# Altium schematic symbol library kmilo17pet-LT_PMIC_LT.SchLib: 2252 symbols (part 115 of 124)
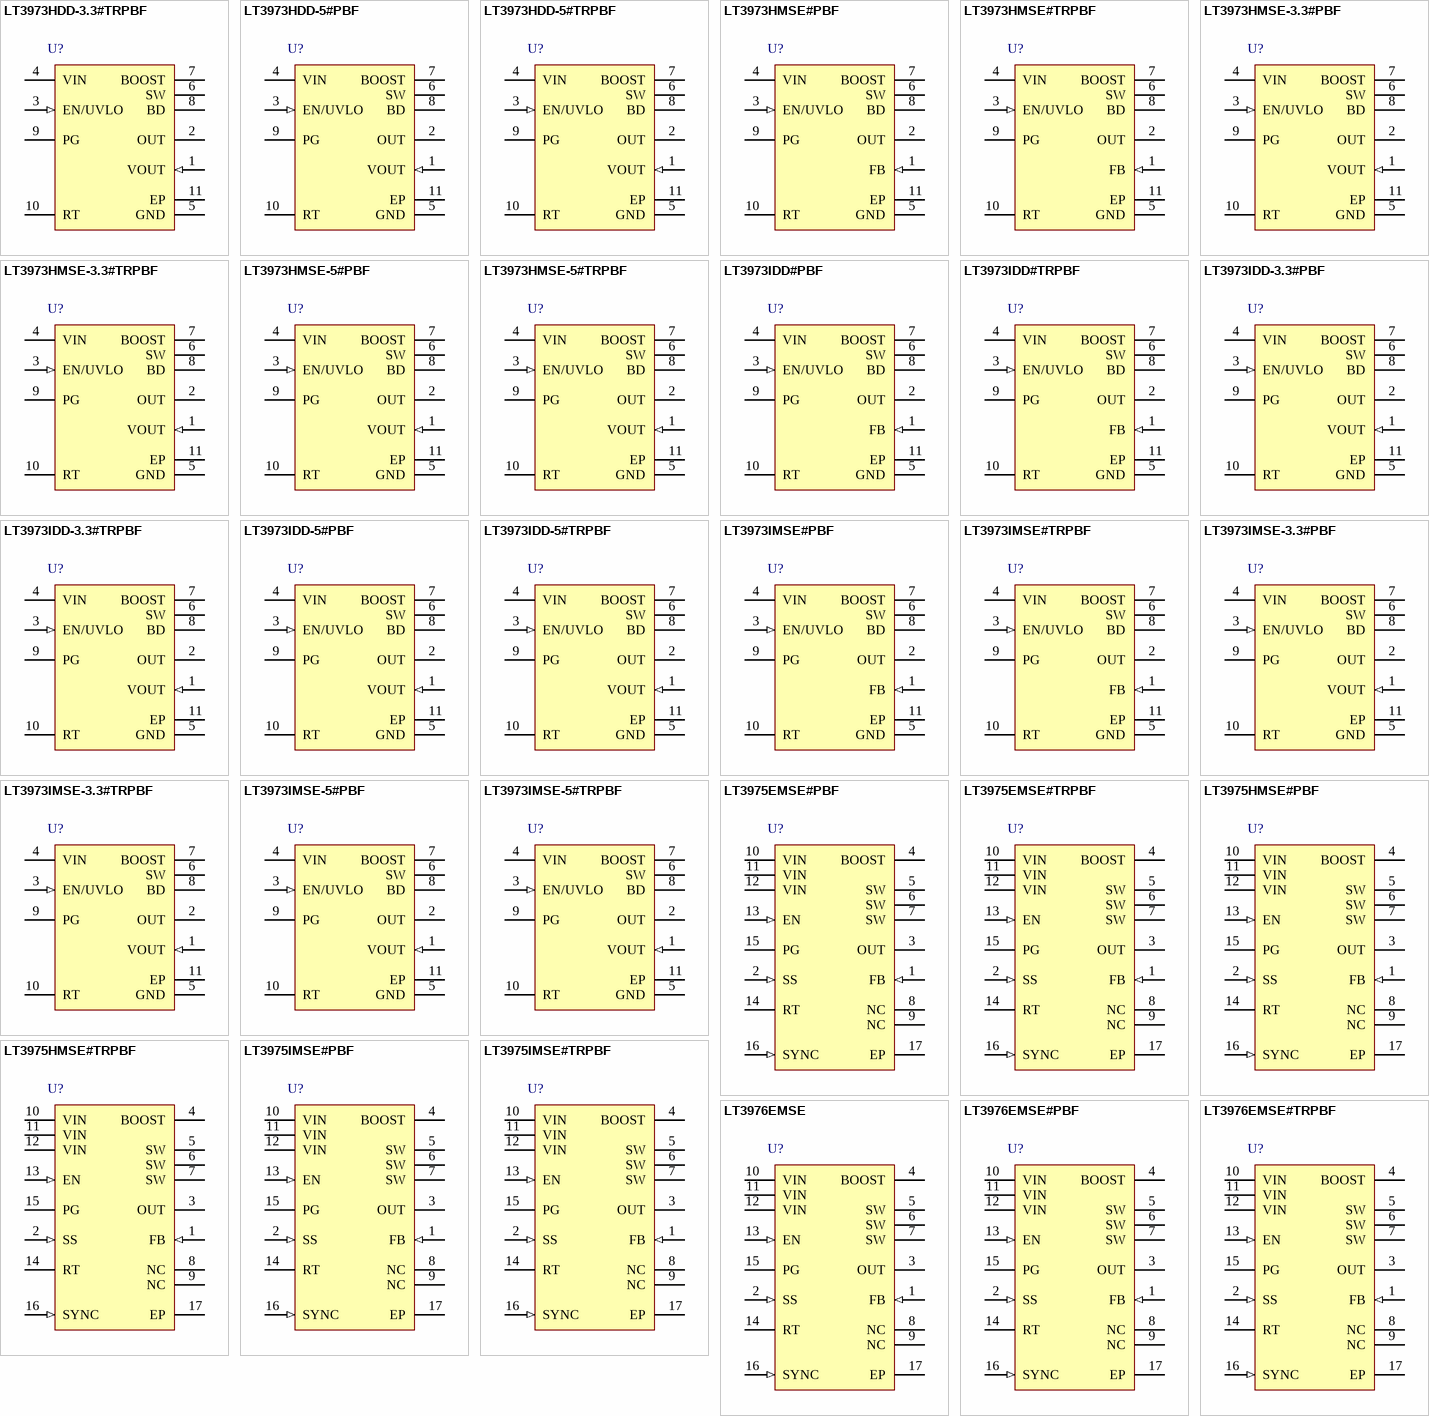
[diagram p185: symbols LT3973HDD-3.3#TRPBF to LT3976EMSE#TRPBF]

## LT3975IMSE#TRPBF
designator U?
2.5 A, 2 MHz Step-Down Switching Regulator with 2.7 uA Quiescent Current, 16-pin SOP (MSE-16-EDP), -40 to 125 degC, Pb-Free, Tape and Reel; Manufacturer: Linear Technology; PartNumber: LT3975IMSE#TRPBF; Number of Outputs: 1; PackageReference: MSE-16; PackageDescription: 16-Pin Plastic MSOP, Exposed Die Pad, Body 4.039 x 3 mm, Pitch 0.5 mm; Supplier 1: Digi-Key; Supplier Part Number 1: LT3975IMSE#TRPBF-ND; RoHS: TRUE
footprint LT-MSE-16-EDP_N (SOP, 16-Leads, Body 4.1x3.1mm, Pitch 0.5mm, Thermal Pad 2.95x1.76mm, IPC Medium Density)
footprint LT-MSE-16-EDP_L (SOP, 16-Leads, Body 4.1x3.1mm, Pitch 0.5mm, Thermal Pad 2.95x1.76mm, IPC High Density)
footprint LT-MSE-16-EDP_M (SOP, 16-Leads, Body 4.1x3.1mm, Pitch 0.5mm, Thermal Pad 2.95x1.76mm, IPC Low Density)
pins: 1 FB (in) "The LT3976 regulates the FB pin to 1.197V. Connect the feedback resistor divider tap to this pin. Also, connect a phase lead capacitor between FB and the output. Typically, this capacitor is 10pF.", 2 SS (in) "A capacitor is tied between SS and ground to slowly ramp up the peak current limit of the LT3976 on start-up. There is an internal 1.8uA pull-up on this pin. The soft -start capacitor is actively discharged when the EN pin (See Datasheet)", 3 OUT (power) "This pin is an input to the dropout comparator which maintains a minimum dropout of 500mV between VIN and OUT. The OUT pin connects to the anode of the internal boost diode. This pin also supplies the current to the (See Datasheet)", 4 BOOST "This pin is used to provide a drive voltage, higher than the input voltage, to the internal bipolar NPN power switch.", 5 SW (power) "The SW pin is the output of an internal power switch. Connect these pins to the inductor, catch diode, and boost capacitor. An R-C snubber to GND is needed to ensure robustness under all conditions. Typical values are 2ohm (See Datasheet)", 6 SW (power) "The SW pin is the output of an internal power switch. Connect these pins to the inductor, catch diode, and boost capacitor. An R-C snubber to GND is needed to ensure robustness under all conditions. Typical values are 2ohm (See Datasheet)", 7 SW (power) "The SW pin is the output of an internal power switch. Connect these pins to the inductor, catch diode, and boost capacitor. An R-C snubber to GND is needed to ensure robustness under all conditions. Typical values are 2ohm (See Datasheet)", 8 NC "No Connects. These pins are not connected to internal circuitry.", 9 NC "No Connects. These pins are not connected to internal circuitry.", 10 VIN (power) "The VIN pin supplies current to the LT3976’s internal circuitry and to the internal power switch. These pins must be locally bypassed.", 11 VIN (power) "The VIN pin supplies current to the LT3976’s internal circuitry and to the internal power switch. These pins must be locally bypassed.", 12 VIN (power) "The VIN pin supplies current to the LT3976’s internal circuitry and to the internal power switch. These pins must be locally bypassed.", 13 EN (in) "The part is in shutdown when this pin is low and active when this pin is high. The hysteretic threshold voltage is 1.08V going up and 1.02V going down. The EN threshold is only accurate when VIN is above 4.3V. If VIN is (See Datasheet)", 14 RT "A resistor is tied between RT and ground to set the switching frequency.", 15 PG (hiz) "The PG pin is the open-drain output of an internal comparator. PGOOD remains low until the FB pin is within 8.4% of the final regulation voltage. PGOOD is valid when VIN is above 2V.", 16 SYNC (in) "This is the external clock synchronization input. Ground this pin for low ripple Burst Mode operation at low output loads. Tie to a clock source for synchronization, which will include pulse skipping at low output loads. (See Datasheet)", 17 EP (power) "Ground. The exposed pad must be soldered to the PCB."

## LT3976EMSE
designator U?
5 A, 2 MHz Step-Down Switching Regulator with 3.3 uA Quiescent Current, 16-pin SOP (MSE-16-EDP), -40 to 125 degC; Manufacturer: Linear Technology; PartNumber: LT3976EMSE; Number of Outputs: 1; PackageReference: MSE-16; PackageDescription: 16-Pin Plastic MSOP, Exposed Die Pad, Body 4.039 x 3 mm, Pitch 0.5 mm; RoHS: FALSE
footprint LT-MSE-16-EDP_N (SOP, 16-Leads, Body 4.1x3.1mm, Pitch 0.5mm, Thermal Pad 2.95x1.76mm, IPC Medium Density)
footprint LT-MSE-16-EDP_L (SOP, 16-Leads, Body 4.1x3.1mm, Pitch 0.5mm, Thermal Pad 2.95x1.76mm, IPC High Density)
footprint LT-MSE-16-EDP_M (SOP, 16-Leads, Body 4.1x3.1mm, Pitch 0.5mm, Thermal Pad 2.95x1.76mm, IPC Low Density)
pins: 1 FB (in) "The LT3976 regulates the FB pin to 1.197V. Connect the feedback resistor divider tap to this pin. Also, connect a phase lead capacitor between FB and the output. Typically, this capacitor is 10pF.", 2 SS (in) "A capacitor is tied between SS and ground to slowly ramp up the peak current limit of the LT3976 on start-up. There is an internal 1.8uA pull-up on this pin. The soft -start capacitor is actively discharged when the EN pin (See Datasheet)", 3 OUT (power) "This pin is an input to the dropout comparator which maintains a minimum dropout of 500mV between VIN and OUT. The OUT pin connects to the anode of the internal boost diode. This pin also supplies the current to the (See Datasheet)", 4 BOOST "This pin is used to provide a drive voltage, higher than the input voltage, to the internal bipolar NPN power switch.", 5 SW (power) "The SW pin is the output of an internal power switch. Connect these pins to the inductor, catch diode, and boost capacitor. An R-C snubber to GND is needed to ensure robustness under all conditions. Typical values are 2ohm (See Datasheet)", 6 SW (power) "The SW pin is the output of an internal power switch. Connect these pins to the inductor, catch diode, and boost capacitor. An R-C snubber to GND is needed to ensure robustness under all conditions. Typical values are 2ohm (See Datasheet)", 7 SW (power) "The SW pin is the output of an internal power switch. Connect these pins to the inductor, catch diode, and boost capacitor. An R-C snubber to GND is needed to ensure robustness under all conditions. Typical values are 2ohm (See Datasheet)", 8 NC "No Connects. These pins are not connected to internal circuitry.", 9 NC "No Connects. These pins are not connected to internal circuitry.", 10 VIN (power) "The VIN pin supplies current to the LT3976’s internal circuitry and to the internal power switch. These pins must be locally bypassed.", 11 VIN (power) "The VIN pin supplies current to the LT3976’s internal circuitry and to the internal power switch. These pins must be locally bypassed.", 12 VIN (power) "The VIN pin supplies current to the LT3976’s internal circuitry and to the internal power switch. These pins must be locally bypassed.", 13 EN (in) "The part is in shutdown when this pin is low and active when this pin is high. The hysteretic threshold voltage is 1.08V going up and 1.02V going down. The EN threshold is only accurate when VIN is above 4.3V. If VIN is (See Datasheet)", 14 RT "A resistor is tied between RT and ground to set the switching frequency.", 15 PG (hiz) "The PG pin is the open-drain output of an internal comparator. PGOOD remains low until the FB pin is within 8.4% of the final regulation voltage. PGOOD is valid when VIN is above 2V.", 16 SYNC (in) "This is the external clock synchronization input. Ground this pin for low ripple Burst Mode operation at low output loads. Tie to a clock source for synchronization, which will include pulse skipping at low output loads. (See Datasheet)", 17 EP (power) "Ground. The exposed pad must be soldered to the PCB."

## LT3976EMSE#PBF
designator U?
5 A, 2 MHz Step-Down Switching Regulator with 3.3 uA Quiescent Current, 16-pin SOP (MSE-16-EDP), -40 to 125 degC, Pb-Free; Manufacturer: Linear Technology; PartNumber: LT3976EMSE#PBF; Number of Outputs: 1; PackageReference: MSE-16; PackageDescription: 16-Pin Plastic MSOP, Exposed Die Pad, Body 4.039 x 3 mm, Pitch 0.5 mm; Supplier 1: Digi-Key; Supplier Part Number 1: LT3976EMSE#PBF-ND; RoHS: TRUE
footprint LT-MSE-16-EDP_N (SOP, 16-Leads, Body 4.1x3.1mm, Pitch 0.5mm, Thermal Pad 2.95x1.76mm, IPC Medium Density)
footprint LT-MSE-16-EDP_L (SOP, 16-Leads, Body 4.1x3.1mm, Pitch 0.5mm, Thermal Pad 2.95x1.76mm, IPC High Density)
footprint LT-MSE-16-EDP_M (SOP, 16-Leads, Body 4.1x3.1mm, Pitch 0.5mm, Thermal Pad 2.95x1.76mm, IPC Low Density)
pins: 1 FB (in) "The LT3976 regulates the FB pin to 1.197V. Connect the feedback resistor divider tap to this pin. Also, connect a phase lead capacitor between FB and the output. Typically, this capacitor is 10pF.", 2 SS (in) "A capacitor is tied between SS and ground to slowly ramp up the peak current limit of the LT3976 on start-up. There is an internal 1.8uA pull-up on this pin. The soft -start capacitor is actively discharged when the EN pin (See Datasheet)", 3 OUT (power) "This pin is an input to the dropout comparator which maintains a minimum dropout of 500mV between VIN and OUT. The OUT pin connects to the anode of the internal boost diode. This pin also supplies the current to the (See Datasheet)", 4 BOOST "This pin is used to provide a drive voltage, higher than the input voltage, to the internal bipolar NPN power switch.", 5 SW (power) "The SW pin is the output of an internal power switch. Connect these pins to the inductor, catch diode, and boost capacitor. An R-C snubber to GND is needed to ensure robustness under all conditions. Typical values are 2ohm (See Datasheet)", 6 SW (power) "The SW pin is the output of an internal power switch. Connect these pins to the inductor, catch diode, and boost capacitor. An R-C snubber to GND is needed to ensure robustness under all conditions. Typical values are 2ohm (See Datasheet)", 7 SW (power) "The SW pin is the output of an internal power switch. Connect these pins to the inductor, catch diode, and boost capacitor. An R-C snubber to GND is needed to ensure robustness under all conditions. Typical values are 2ohm (See Datasheet)", 8 NC "No Connects. These pins are not connected to internal circuitry.", 9 NC "No Connects. These pins are not connected to internal circuitry.", 10 VIN (power) "The VIN pin supplies current to the LT3976’s internal circuitry and to the internal power switch. These pins must be locally bypassed.", 11 VIN (power) "The VIN pin supplies current to the LT3976’s internal circuitry and to the internal power switch. These pins must be locally bypassed.", 12 VIN (power) "The VIN pin supplies current to the LT3976’s internal circuitry and to the internal power switch. These pins must be locally bypassed.", 13 EN (in) "The part is in shutdown when this pin is low and active when this pin is high. The hysteretic threshold voltage is 1.08V going up and 1.02V going down. The EN threshold is only accurate when VIN is above 4.3V. If VIN is (See Datasheet)", 14 RT "A resistor is tied between RT and ground to set the switching frequency.", 15 PG (hiz) "The PG pin is the open-drain output of an internal comparator. PGOOD remains low until the FB pin is within 8.4% of the final regulation voltage. PGOOD is valid when VIN is above 2V.", 16 SYNC (in) "This is the external clock synchronization input. Ground this pin for low ripple Burst Mode operation at low output loads. Tie to a clock source for synchronization, which will include pulse skipping at low output loads. (See Datasheet)", 17 EP (power) "Ground. The exposed pad must be soldered to the PCB."

## LT3976EMSE#TRPBF
designator U?
5 A, 2 MHz Step-Down Switching Regulator with 3.3 uA Quiescent Current, 16-pin SOP (MSE-16-EDP), -40 to 125 degC, Pb-Free, Tape and Reel; Manufacturer: Linear Technology; PartNumber: LT3976EMSE#TRPBF; Number of Outputs: 1; PackageReference: MSE-16; PackageDescription: 16-Pin Plastic MSOP, Exposed Die Pad, Body 4.039 x 3 mm, Pitch 0.5 mm; Supplier 1: Digi-Key; Supplier Part Number 1: LT3976EMSE#TRPBF-ND; RoHS: TRUE
footprint LT-MSE-16-EDP_N (SOP, 16-Leads, Body 4.1x3.1mm, Pitch 0.5mm, Thermal Pad 2.95x1.76mm, IPC Medium Density)
footprint LT-MSE-16-EDP_L (SOP, 16-Leads, Body 4.1x3.1mm, Pitch 0.5mm, Thermal Pad 2.95x1.76mm, IPC High Density)
footprint LT-MSE-16-EDP_M (SOP, 16-Leads, Body 4.1x3.1mm, Pitch 0.5mm, Thermal Pad 2.95x1.76mm, IPC Low Density)
pins: 1 FB (in) "The LT3976 regulates the FB pin to 1.197V. Connect the feedback resistor divider tap to this pin. Also, connect a phase lead capacitor between FB and the output. Typically, this capacitor is 10pF.", 2 SS (in) "A capacitor is tied between SS and ground to slowly ramp up the peak current limit of the LT3976 on start-up. There is an internal 1.8uA pull-up on this pin. The soft -start capacitor is actively discharged when the EN pin (See Datasheet)", 3 OUT (power) "This pin is an input to the dropout comparator which maintains a minimum dropout of 500mV between VIN and OUT. The OUT pin connects to the anode of the internal boost diode. This pin also supplies the current to the (See Datasheet)", 4 BOOST "This pin is used to provide a drive voltage, higher than the input voltage, to the internal bipolar NPN power switch.", 5 SW (power) "The SW pin is the output of an internal power switch. Connect these pins to the inductor, catch diode, and boost capacitor. An R-C snubber to GND is needed to ensure robustness under all conditions. Typical values are 2ohm (See Datasheet)", 6 SW (power) "The SW pin is the output of an internal power switch. Connect these pins to the inductor, catch diode, and boost capacitor. An R-C snubber to GND is needed to ensure robustness under all conditions. Typical values are 2ohm (See Datasheet)", 7 SW (power) "The SW pin is the output of an internal power switch. Connect these pins to the inductor, catch diode, and boost capacitor. An R-C snubber to GND is needed to ensure robustness under all conditions. Typical values are 2ohm (See Datasheet)", 8 NC "No Connects. These pins are not connected to internal circuitry.", 9 NC "No Connects. These pins are not connected to internal circuitry.", 10 VIN (power) "The VIN pin supplies current to the LT3976’s internal circuitry and to the internal power switch. These pins must be locally bypassed.", 11 VIN (power) "The VIN pin supplies current to the LT3976’s internal circuitry and to the internal power switch. These pins must be locally bypassed.", 12 VIN (power) "The VIN pin supplies current to the LT3976’s internal circuitry and to the internal power switch. These pins must be locally bypassed.", 13 EN (in) "The part is in shutdown when this pin is low and active when this pin is high. The hysteretic threshold voltage is 1.08V going up and 1.02V going down. The EN threshold is only accurate when VIN is above 4.3V. If VIN is (See Datasheet)", 14 RT "A resistor is tied between RT and ground to set the switching frequency.", 15 PG (hiz) "The PG pin is the open-drain output of an internal comparator. PGOOD remains low until the FB pin is within 8.4% of the final regulation voltage. PGOOD is valid when VIN is above 2V.", 16 SYNC (in) "This is the external clock synchronization input. Ground this pin for low ripple Burst Mode operation at low output loads. Tie to a clock source for synchronization, which will include pulse skipping at low output loads. (See Datasheet)", 17 EP (power) "Ground. The exposed pad must be soldered to the PCB."

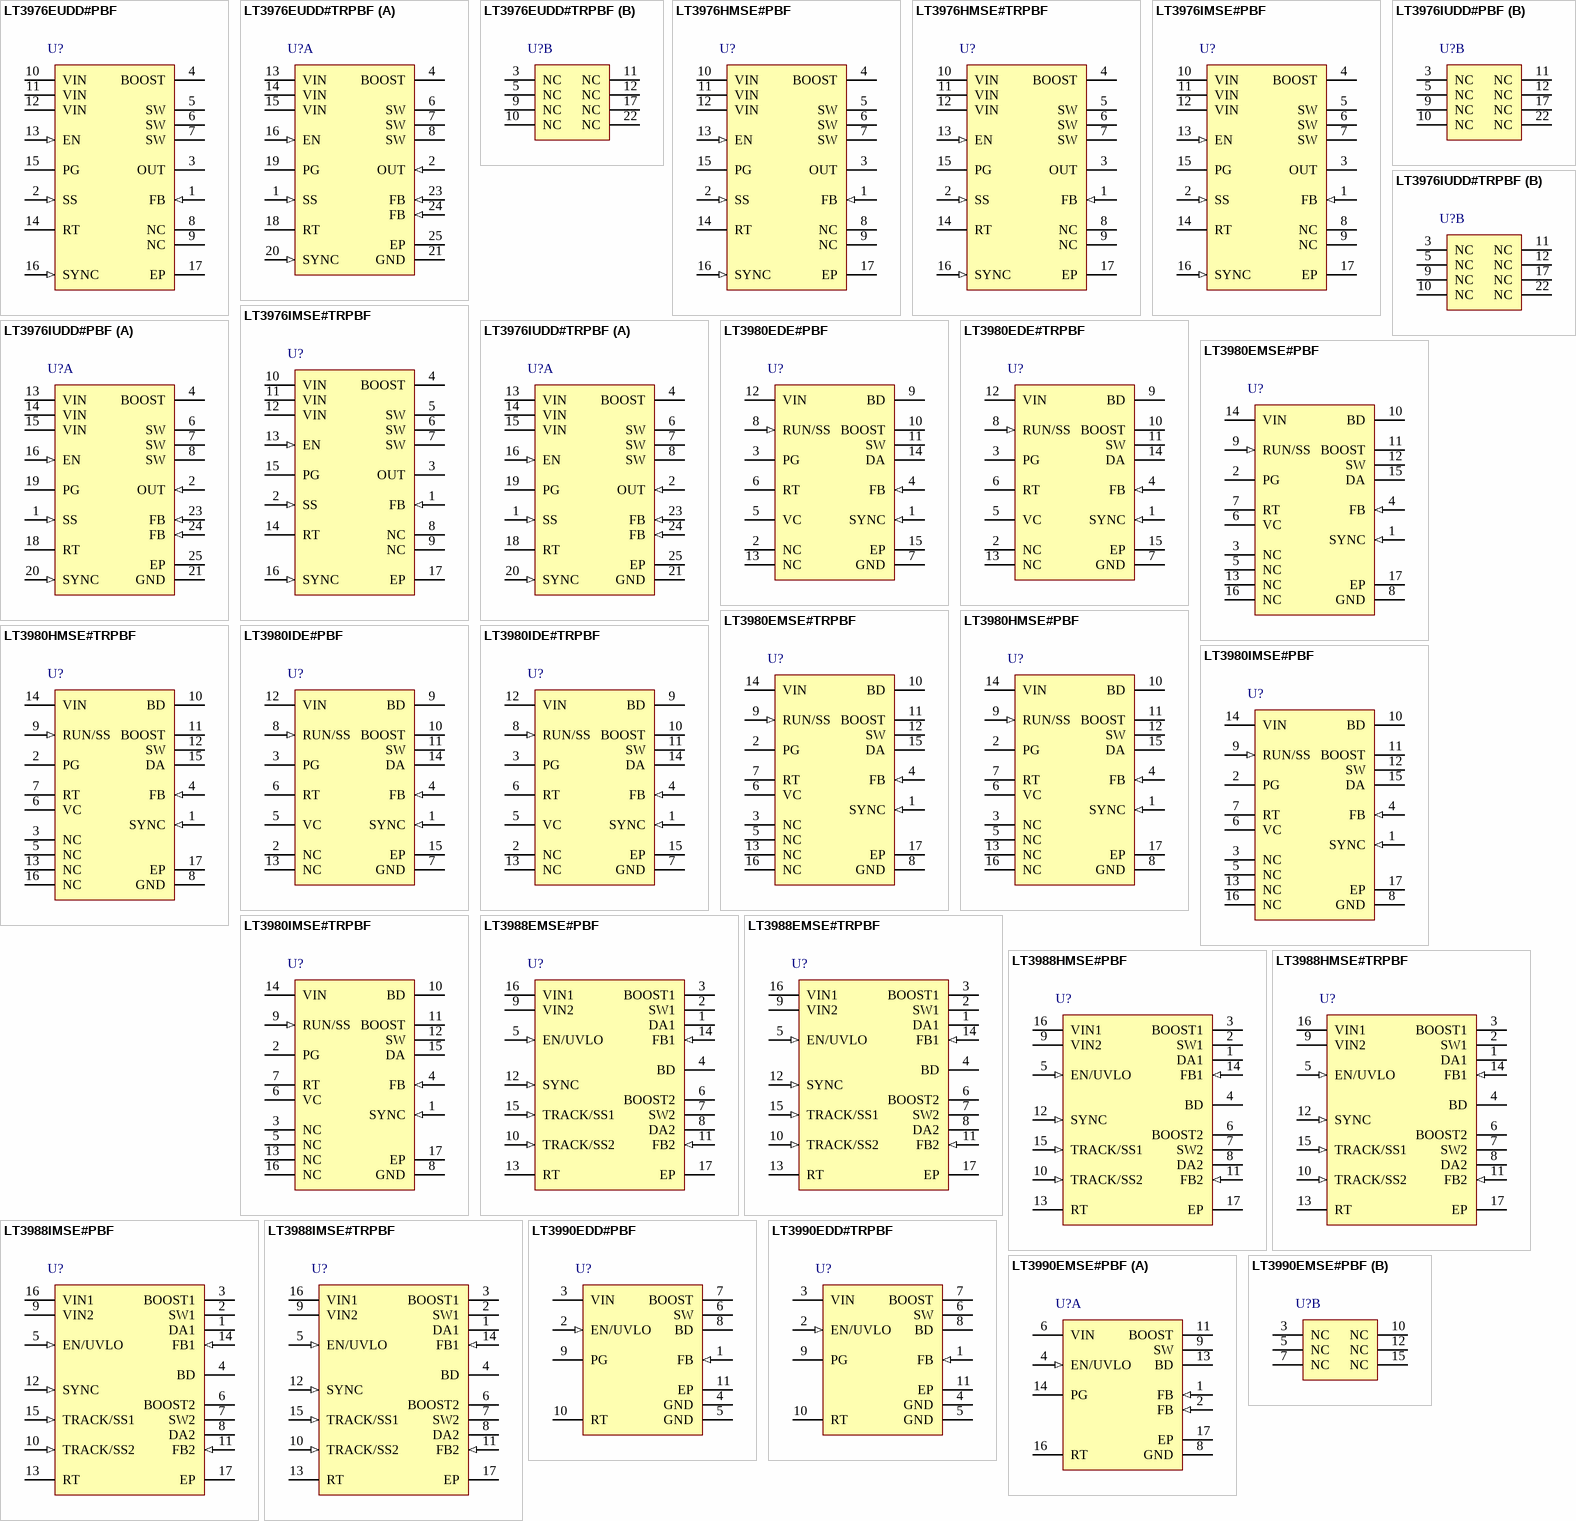
[diagram p66: symbols LT3976EUDD#PBF to LT3990EMSE#PBF]

## LT3976EUDD#PBF
designator U?
5 A, 2 MHz Step-Down Switching Regulator with 3.3 uA Quiescent Current, 16-pin SOP (MSE-16-EDP), -40 to 125 degC, Pb-Free; Manufacturer: Linear Technology; PartNumber: LT3976EUDD#PBF; Number of Outputs: 1; PackageReference: MSE-16; PackageDescription: 16-Pin Plastic MSOP, Exposed Die Pad, Body 4.039 x 3 mm, Pitch 0.5 mm; Supplier 1: Digi-Key; Supplier Part Number 1: LT3976EUDD#PBF-ND; RoHS: TRUE
footprint LT-MSE-16-EDP_N (SOP, 16-Leads, Body 4.1x3.1mm, Pitch 0.5mm, Thermal Pad 2.95x1.76mm, IPC Medium Density)
footprint LT-MSE-16-EDP_L (SOP, 16-Leads, Body 4.1x3.1mm, Pitch 0.5mm, Thermal Pad 2.95x1.76mm, IPC High Density)
footprint LT-MSE-16-EDP_M (SOP, 16-Leads, Body 4.1x3.1mm, Pitch 0.5mm, Thermal Pad 2.95x1.76mm, IPC Low Density)
pins: 1 FB (in) "The LT3976 regulates the FB pin to 1.197V. Connect the feedback resistor divider tap to this pin. Also, connect a phase lead capacitor between FB and the output. Typically, this capacitor is 10pF.", 2 SS (in) "A capacitor is tied between SS and ground to slowly ramp up the peak current limit of the LT3976 on start-up. There is an internal 1.8uA pull-up on this pin. The soft -start capacitor is actively discharged when the EN pin (See Datasheet)", 3 OUT (power) "This pin is an input to the dropout comparator which maintains a minimum dropout of 500mV between VIN and OUT. The OUT pin connects to the anode of the internal boost diode. This pin also supplies the current to the (See Datasheet)", 4 BOOST "This pin is used to provide a drive voltage, higher than the input voltage, to the internal bipolar NPN power switch.", 5 SW (power) "The SW pin is the output of an internal power switch. Connect these pins to the inductor, catch diode, and boost capacitor. An R-C snubber to GND is needed to ensure robustness under all conditions. Typical values are 2ohm (See Datasheet)", 6 SW (power) "The SW pin is the output of an internal power switch. Connect these pins to the inductor, catch diode, and boost capacitor. An R-C snubber to GND is needed to ensure robustness under all conditions. Typical values are 2ohm (See Datasheet)", 7 SW (power) "The SW pin is the output of an internal power switch. Connect these pins to the inductor, catch diode, and boost capacitor. An R-C snubber to GND is needed to ensure robustness under all conditions. Typical values are 2ohm (See Datasheet)", 8 NC "No Connects. These pins are not connected to internal circuitry.", 9 NC "No Connects. These pins are not connected to internal circuitry.", 10 VIN (power) "The VIN pin supplies current to the LT3976’s internal circuitry and to the internal power switch. These pins must be locally bypassed.", 11 VIN (power) "The VIN pin supplies current to the LT3976’s internal circuitry and to the internal power switch. These pins must be locally bypassed.", 12 VIN (power) "The VIN pin supplies current to the LT3976’s internal circuitry and to the internal power switch. These pins must be locally bypassed.", 13 EN (in) "The part is in shutdown when this pin is low and active when this pin is high. The hysteretic threshold voltage is 1.08V going up and 1.02V going down. The EN threshold is only accurate when VIN is above 4.3V. If VIN is (See Datasheet)", 14 RT "A resistor is tied between RT and ground to set the switching frequency.", 15 PG (hiz) "The PG pin is the open-drain output of an internal comparator. PGOOD remains low until the FB pin is within 8.4% of the final regulation voltage. PGOOD is valid when VIN is above 2V.", 16 SYNC (in) "This is the external clock synchronization input. Ground this pin for low ripple Burst Mode operation at low output loads. Tie to a clock source for synchronization, which will include pulse skipping at low output loads. (See Datasheet)", 17 EP (power) "Ground. The exposed pad must be soldered to the PCB."

## LT3976EUDD#TRPBF
designator U?
5 A, 2 MHz Step-Down Switching Regulator with 3.3 uA Quiescent Current, 24-pin QFN (UDD-24), -40 to 125 degC, Pb-Free, Tape and Reel; Manufacturer: Linear Technology; PartNumber: LT3976EUDD#TRPBF; Number of Outputs: 1; PackageReference: UDD-24; PackageDescription: 24-Pin Plastic QFN, Body 5 x 3 mm, Pitch 0.5 mm; Supplier 1: Digi-Key; Supplier Part Number 1: LT3976EUDD#TRPBF-ND; RoHS: TRUE
footprint LT-UDD-24_N (QFN, 24-Leads, Body 5.1x3.1mm, Pitch 0.5mm, Thermal Pad 3.65x1.65mm, IPC Medium Density)
footprint LT-UDD-24_L (QFN, 24-Leads, Body 5.1x3.1mm, Pitch 0.5mm, Thermal Pad 3.65x1.65mm, IPC High Density)
footprint LT-UDD-24_M (QFN, 24-Leads, Body 5.1x3.1mm, Pitch 0.5mm, Thermal Pad 3.65x1.65mm, IPC Low Density)
part A pins: 1 SS (in) "A capacitor is tied between SS and ground to slowly ramp up the peak current limit of the LT3976 on start-up. There is an internal 1.8uA pull-up on this pin. The soft-start capacitor is actively discharged when the EN pin (See Datasheet)", 2 OUT (in) "This pin is an input to the dropout comparator which maintains a minimum dropout of 500mV between VIN and OUT. The OUT pin connects to the anode of the internal boost diode. This pin also supplies the current to the (See Datasheet)", 4 BOOST "This pin is used to provide a drive voltage, higher than the input voltage, to the internal bipolar NPN power switch.", 6 SW (power) "The SW pin is the output of an internal power switch. Connect these pins to the inductor, catch diode, and boost capacitor. An R-C snubber to GND is needed to ensure robustness under all conditions. Typical values are 2ohm (See Datasheet)", 7 SW (power) "The SW pin is the output of an internal power switch. Connect these pins to the inductor, catch diode, and boost capacitor. An R-C snubber to GND is needed to ensure robustness under all conditions. Typical values are 2ohm (See Datasheet)", 8 SW (power) "The SW pin is the output of an internal power switch. Connect these pins to the inductor, catch diode, and boost capacitor. An R-C snubber to GND is needed to ensure robustness under all conditions. Typical values are 2ohm (See Datasheet)", 13 VIN (power) "The VIN pin supplies current to the LT3976’s internal circuitry and to the internal power switch. These pins must be locally bypassed.", 14 VIN (power) "The VIN pin supplies current to the LT3976’s internal circuitry and to the internal power switch. These pins must be locally bypassed.", 15 VIN (power) "The VIN pin supplies current to the LT3976’s internal circuitry and to the internal power switch. These pins must be locally bypassed.", 16 EN (in) "The part is in shutdown when this pin is low and active when this pin is high. The hysteretic threshold voltage is 1.08V going up and 1.02V going down. The EN threshold is only accurate when VIN is above 4.3V. If VIN is (See Datasheet)", 18 RT "A resistor is tied between RT and ground to set the switching frequency.", 19 PG (hiz) "The PG pin is the open-drain output of an internal comparator. PGOOD remains low until the FB pin is within 8.4% of the final regulation voltage. PGOOD is valid when VIN is above 2V.", 20 SYNC (in) "This is the external clock synchronization input. Ground this pin for low ripple Burst Mode operation at low output loads. Tie to a clock source for synchronization, which will include pulse skipping at low output loads. (See Datasheet)", 21 GND (power) "Ground. The exposed pad must be soldered to the PCB.", 23 FB (in) "The LT3976 regulates the FB pin to 1.197V. Connect the feedback resistor divider tap to this pin. Also, connect a phase lead capacitor between FB and the output. Typically, this capacitor is 10pF.", 24 FB (in) "The LT3976 regulates the FB pin to 1.197V. Connect the feedback resistor divider tap to this pin. Also, connect a phase lead capacitor between FB and the output. Typically, this capacitor is 10pF.", 25 EP (power) "Ground. The exposed pad must be soldered to the PCB."
part B pins: 3 NC "No Connects. These pins are not connected to internal circuitry.", 5 NC "No Connects. These pins are not connected to internal circuitry.", 9 NC "No Connects. These pins are not connected to internal circuitry.", 10 NC "No Connects. These pins are not connected to internal circuitry.", 11 NC "No Connects. These pins are not connected to internal circuitry.", 12 NC "No Connects. These pins are not connected to internal circuitry.", 17 NC "No Connects. These pins are not connected to internal circuitry.", 22 NC "No Connects. These pins are not connected to internal circuitry."

## LT3976HMSE#PBF
designator U?
5 A, 2 MHz Step-Down Switching Regulator with 3.3 uA Quiescent Current, 16-pin SOP (MSE-16-EDP), -40 to 150 degC, Pb-Free; Manufacturer: Linear Technology; PartNumber: LT3976HMSE#PBF; Number of Outputs: 1; PackageReference: MSE-16; PackageDescription: 16-Pin Plastic MSOP, Exposed Die Pad, Body 4.039 x 3 mm, Pitch 0.5 mm; Supplier 1: Digi-Key; Supplier Part Number 1: LT3976HMSE#PBF-ND; RoHS: TRUE
footprint LT-MSE-16-EDP_N (SOP, 16-Leads, Body 4.1x3.1mm, Pitch 0.5mm, Thermal Pad 2.95x1.76mm, IPC Medium Density)
footprint LT-MSE-16-EDP_L (SOP, 16-Leads, Body 4.1x3.1mm, Pitch 0.5mm, Thermal Pad 2.95x1.76mm, IPC High Density)
footprint LT-MSE-16-EDP_M (SOP, 16-Leads, Body 4.1x3.1mm, Pitch 0.5mm, Thermal Pad 2.95x1.76mm, IPC Low Density)
pins: 1 FB (in) "The LT3976 regulates the FB pin to 1.197V. Connect the feedback resistor divider tap to this pin. Also, connect a phase lead capacitor between FB and the output. Typically, this capacitor is 10pF.", 2 SS (in) "A capacitor is tied between SS and ground to slowly ramp up the peak current limit of the LT3976 on start-up. There is an internal 1.8uA pull-up on this pin. The soft -start capacitor is actively discharged when the EN pin (See Datasheet)", 3 OUT (power) "This pin is an input to the dropout comparator which maintains a minimum dropout of 500mV between VIN and OUT. The OUT pin connects to the anode of the internal boost diode. This pin also supplies the current to the (See Datasheet)", 4 BOOST "This pin is used to provide a drive voltage, higher than the input voltage, to the internal bipolar NPN power switch.", 5 SW (power) "The SW pin is the output of an internal power switch. Connect these pins to the inductor, catch diode, and boost capacitor. An R-C snubber to GND is needed to ensure robustness under all conditions. Typical values are 2ohm (See Datasheet)", 6 SW (power) "The SW pin is the output of an internal power switch. Connect these pins to the inductor, catch diode, and boost capacitor. An R-C snubber to GND is needed to ensure robustness under all conditions. Typical values are 2ohm (See Datasheet)", 7 SW (power) "The SW pin is the output of an internal power switch. Connect these pins to the inductor, catch diode, and boost capacitor. An R-C snubber to GND is needed to ensure robustness under all conditions. Typical values are 2ohm (See Datasheet)", 8 NC "No Connects. These pins are not connected to internal circuitry.", 9 NC "No Connects. These pins are not connected to internal circuitry.", 10 VIN (power) "The VIN pin supplies current to the LT3976’s internal circuitry and to the internal power switch. These pins must be locally bypassed.", 11 VIN (power) "The VIN pin supplies current to the LT3976’s internal circuitry and to the internal power switch. These pins must be locally bypassed.", 12 VIN (power) "The VIN pin supplies current to the LT3976’s internal circuitry and to the internal power switch. These pins must be locally bypassed.", 13 EN (in) "The part is in shutdown when this pin is low and active when this pin is high. The hysteretic threshold voltage is 1.08V going up and 1.02V going down. The EN threshold is only accurate when VIN is above 4.3V. If VIN is (See Datasheet)", 14 RT "A resistor is tied between RT and ground to set the switching frequency.", 15 PG (hiz) "The PG pin is the open-drain output of an internal comparator. PGOOD remains low until the FB pin is within 8.4% of the final regulation voltage. PGOOD is valid when VIN is above 2V.", 16 SYNC (in) "This is the external clock synchronization input. Ground this pin for low ripple Burst Mode operation at low output loads. Tie to a clock source for synchronization, which will include pulse skipping at low output loads. (See Datasheet)", 17 EP (power) "Ground. The exposed pad must be soldered to the PCB."

## LT3976HMSE#TRPBF
designator U?
5 A, 2 MHz Step-Down Switching Regulator with 3.3 uA Quiescent Current, 16-pin SOP (MSE-16-EDP), -40 to 150 degC, Pb-Free, Tape and Reel; Manufacturer: Linear Technology; PartNumber: LT3976HMSE#TRPBF; Number of Outputs: 1; PackageReference: MSE-16; PackageDescription: 16-Pin Plastic MSOP, Exposed Die Pad, Body 4.039 x 3 mm, Pitch 0.5 mm; Supplier 1: Digi-Key; Supplier Part Number 1: LT3976HMSE#TRPBF-ND; RoHS: TRUE
footprint LT-MSE-16-EDP_N (SOP, 16-Leads, Body 4.1x3.1mm, Pitch 0.5mm, Thermal Pad 2.95x1.76mm, IPC Medium Density)
footprint LT-MSE-16-EDP_L (SOP, 16-Leads, Body 4.1x3.1mm, Pitch 0.5mm, Thermal Pad 2.95x1.76mm, IPC High Density)
footprint LT-MSE-16-EDP_M (SOP, 16-Leads, Body 4.1x3.1mm, Pitch 0.5mm, Thermal Pad 2.95x1.76mm, IPC Low Density)
pins: 1 FB (in) "The LT3976 regulates the FB pin to 1.197V. Connect the feedback resistor divider tap to this pin. Also, connect a phase lead capacitor between FB and the output. Typically, this capacitor is 10pF.", 2 SS (in) "A capacitor is tied between SS and ground to slowly ramp up the peak current limit of the LT3976 on start-up. There is an internal 1.8uA pull-up on this pin. The soft -start capacitor is actively discharged when the EN pin (See Datasheet)", 3 OUT (power) "This pin is an input to the dropout comparator which maintains a minimum dropout of 500mV between VIN and OUT. The OUT pin connects to the anode of the internal boost diode. This pin also supplies the current to the (See Datasheet)", 4 BOOST "This pin is used to provide a drive voltage, higher than the input voltage, to the internal bipolar NPN power switch.", 5 SW (power) "The SW pin is the output of an internal power switch. Connect these pins to the inductor, catch diode, and boost capacitor. An R-C snubber to GND is needed to ensure robustness under all conditions. Typical values are 2ohm (See Datasheet)", 6 SW (power) "The SW pin is the output of an internal power switch. Connect these pins to the inductor, catch diode, and boost capacitor. An R-C snubber to GND is needed to ensure robustness under all conditions. Typical values are 2ohm (See Datasheet)", 7 SW (power) "The SW pin is the output of an internal power switch. Connect these pins to the inductor, catch diode, and boost capacitor. An R-C snubber to GND is needed to ensure robustness under all conditions. Typical values are 2ohm (See Datasheet)", 8 NC "No Connects. These pins are not connected to internal circuitry.", 9 NC "No Connects. These pins are not connected to internal circuitry.", 10 VIN (power) "The VIN pin supplies current to the LT3976’s internal circuitry and to the internal power switch. These pins must be locally bypassed.", 11 VIN (power) "The VIN pin supplies current to the LT3976’s internal circuitry and to the internal power switch. These pins must be locally bypassed.", 12 VIN (power) "The VIN pin supplies current to the LT3976’s internal circuitry and to the internal power switch. These pins must be locally bypassed.", 13 EN (in) "The part is in shutdown when this pin is low and active when this pin is high. The hysteretic threshold voltage is 1.08V going up and 1.02V going down. The EN threshold is only accurate when VIN is above 4.3V. If VIN is (See Datasheet)", 14 RT "A resistor is tied between RT and ground to set the switching frequency.", 15 PG (hiz) "The PG pin is the open-drain output of an internal comparator. PGOOD remains low until the FB pin is within 8.4% of the final regulation voltage. PGOOD is valid when VIN is above 2V.", 16 SYNC (in) "This is the external clock synchronization input. Ground this pin for low ripple Burst Mode operation at low output loads. Tie to a clock source for synchronization, which will include pulse skipping at low output loads. (See Datasheet)", 17 EP (power) "Ground. The exposed pad must be soldered to the PCB."

## LT3976IMSE#PBF
designator U?
5 A, 2 MHz Step-Down Switching Regulator with 3.3 uA Quiescent Current, 16-pin SOP (MSE-16-EDP), -40 to 125 degC, Pb-Free; Manufacturer: Linear Technology; PartNumber: LT3976IMSE#PBF; Number of Outputs: 1; PackageReference: MSE-16; PackageDescription: 16-Pin Plastic MSOP, Exposed Die Pad, Body 4.039 x 3 mm, Pitch 0.5 mm; Supplier 1: Digi-Key; Supplier Part Number 1: LT3976IMSE#PBF-ND; RoHS: TRUE
footprint LT-MSE-16-EDP_N (SOP, 16-Leads, Body 4.1x3.1mm, Pitch 0.5mm, Thermal Pad 2.95x1.76mm, IPC Medium Density)
footprint LT-MSE-16-EDP_L (SOP, 16-Leads, Body 4.1x3.1mm, Pitch 0.5mm, Thermal Pad 2.95x1.76mm, IPC High Density)
footprint LT-MSE-16-EDP_M (SOP, 16-Leads, Body 4.1x3.1mm, Pitch 0.5mm, Thermal Pad 2.95x1.76mm, IPC Low Density)
pins: 1 FB (in) "The LT3976 regulates the FB pin to 1.197V. Connect the feedback resistor divider tap to this pin. Also, connect a phase lead capacitor between FB and the output. Typically, this capacitor is 10pF.", 2 SS (in) "A capacitor is tied between SS and ground to slowly ramp up the peak current limit of the LT3976 on start-up. There is an internal 1.8uA pull-up on this pin. The soft -start capacitor is actively discharged when the EN pin (See Datasheet)", 3 OUT (power) "This pin is an input to the dropout comparator which maintains a minimum dropout of 500mV between VIN and OUT. The OUT pin connects to the anode of the internal boost diode. This pin also supplies the current to the (See Datasheet)", 4 BOOST "This pin is used to provide a drive voltage, higher than the input voltage, to the internal bipolar NPN power switch.", 5 SW (power) "The SW pin is the output of an internal power switch. Connect these pins to the inductor, catch diode, and boost capacitor. An R-C snubber to GND is needed to ensure robustness under all conditions. Typical values are 2ohm (See Datasheet)", 6 SW (power) "The SW pin is the output of an internal power switch. Connect these pins to the inductor, catch diode, and boost capacitor. An R-C snubber to GND is needed to ensure robustness under all conditions. Typical values are 2ohm (See Datasheet)", 7 SW (power) "The SW pin is the output of an internal power switch. Connect these pins to the inductor, catch diode, and boost capacitor. An R-C snubber to GND is needed to ensure robustness under all conditions. Typical values are 2ohm (See Datasheet)", 8 NC "No Connects. These pins are not connected to internal circuitry.", 9 NC "No Connects. These pins are not connected to internal circuitry.", 10 VIN (power) "The VIN pin supplies current to the LT3976’s internal circuitry and to the internal power switch. These pins must be locally bypassed.", 11 VIN (power) "The VIN pin supplies current to the LT3976’s internal circuitry and to the internal power switch. These pins must be locally bypassed.", 12 VIN (power) "The VIN pin supplies current to the LT3976’s internal circuitry and to the internal power switch. These pins must be locally bypassed.", 13 EN (in) "The part is in shutdown when this pin is low and active when this pin is high. The hysteretic threshold voltage is 1.08V going up and 1.02V going down. The EN threshold is only accurate when VIN is above 4.3V. If VIN is (See Datasheet)", 14 RT "A resistor is tied between RT and ground to set the switching frequency.", 15 PG (hiz) "The PG pin is the open-drain output of an internal comparator. PGOOD remains low until the FB pin is within 8.4% of the final regulation voltage. PGOOD is valid when VIN is above 2V.", 16 SYNC (in) "This is the external clock synchronization input. Ground this pin for low ripple Burst Mode operation at low output loads. Tie to a clock source for synchronization, which will include pulse skipping at low output loads. (See Datasheet)", 17 EP (power) "Ground. The exposed pad must be soldered to the PCB."

## LT3976IMSE#TRPBF
designator U?
5 A, 2 MHz Step-Down Switching Regulator with 3.3 uA Quiescent Current, 16-pin SOP (MSE-16-EDP), -40 to 125 degC, Pb-Free, Tape and Reel; Manufacturer: Linear Technology; PartNumber: LT3976IMSE#TRPBF; Number of Outputs: 1; PackageReference: MSE-16; PackageDescription: 16-Pin Plastic MSOP, Exposed Die Pad, Body 4.039 x 3 mm, Pitch 0.5 mm; Supplier 1: Digi-Key; Supplier Part Number 1: LT3976IMSE#TRPBF-ND; RoHS: TRUE
footprint LT-MSE-16-EDP_N (SOP, 16-Leads, Body 4.1x3.1mm, Pitch 0.5mm, Thermal Pad 2.95x1.76mm, IPC Medium Density)
footprint LT-MSE-16-EDP_L (SOP, 16-Leads, Body 4.1x3.1mm, Pitch 0.5mm, Thermal Pad 2.95x1.76mm, IPC High Density)
footprint LT-MSE-16-EDP_M (SOP, 16-Leads, Body 4.1x3.1mm, Pitch 0.5mm, Thermal Pad 2.95x1.76mm, IPC Low Density)
pins: 1 FB (in) "The LT3976 regulates the FB pin to 1.197V. Connect the feedback resistor divider tap to this pin. Also, connect a phase lead capacitor between FB and the output. Typically, this capacitor is 10pF.", 2 SS (in) "A capacitor is tied between SS and ground to slowly ramp up the peak current limit of the LT3976 on start-up. There is an internal 1.8uA pull-up on this pin. The soft -start capacitor is actively discharged when the EN pin (See Datasheet)", 3 OUT (power) "This pin is an input to the dropout comparator which maintains a minimum dropout of 500mV between VIN and OUT. The OUT pin connects to the anode of the internal boost diode. This pin also supplies the current to the (See Datasheet)", 4 BOOST "This pin is used to provide a drive voltage, higher than the input voltage, to the internal bipolar NPN power switch.", 5 SW (power) "The SW pin is the output of an internal power switch. Connect these pins to the inductor, catch diode, and boost capacitor. An R-C snubber to GND is needed to ensure robustness under all conditions. Typical values are 2ohm (See Datasheet)", 6 SW (power) "The SW pin is the output of an internal power switch. Connect these pins to the inductor, catch diode, and boost capacitor. An R-C snubber to GND is needed to ensure robustness under all conditions. Typical values are 2ohm (See Datasheet)", 7 SW (power) "The SW pin is the output of an internal power switch. Connect these pins to the inductor, catch diode, and boost capacitor. An R-C snubber to GND is needed to ensure robustness under all conditions. Typical values are 2ohm (See Datasheet)", 8 NC "No Connects. These pins are not connected to internal circuitry.", 9 NC "No Connects. These pins are not connected to internal circuitry.", 10 VIN (power) "The VIN pin supplies current to the LT3976’s internal circuitry and to the internal power switch. These pins must be locally bypassed.", 11 VIN (power) "The VIN pin supplies current to the LT3976’s internal circuitry and to the internal power switch. These pins must be locally bypassed.", 12 VIN (power) "The VIN pin supplies current to the LT3976’s internal circuitry and to the internal power switch. These pins must be locally bypassed.", 13 EN (in) "The part is in shutdown when this pin is low and active when this pin is high. The hysteretic threshold voltage is 1.08V going up and 1.02V going down. The EN threshold is only accurate when VIN is above 4.3V. If VIN is (See Datasheet)", 14 RT "A resistor is tied between RT and ground to set the switching frequency.", 15 PG (hiz) "The PG pin is the open-drain output of an internal comparator. PGOOD remains low until the FB pin is within 8.4% of the final regulation voltage. PGOOD is valid when VIN is above 2V.", 16 SYNC (in) "This is the external clock synchronization input. Ground this pin for low ripple Burst Mode operation at low output loads. Tie to a clock source for synchronization, which will include pulse skipping at low output loads. (See Datasheet)", 17 EP (power) "Ground. The exposed pad must be soldered to the PCB."

## LT3976IUDD#PBF
designator U?
5 A, 2 MHz Step-Down Switching Regulator with 3.3 uA Quiescent Current, 24-pin QFN (UDD-24), -40 to 125 degC, Pb-Free; Manufacturer: Linear Technology; PartNumber: LT3976IUDD#PBF; Number of Outputs: 1; PackageReference: UDD-24; PackageDescription: 24-Pin Plastic QFN, Body 5 x 3 mm, Pitch 0.5 mm; Supplier 1: Digi-Key; Supplier Part Number 1: LT3976IUDD#PBF-ND; RoHS: TRUE
footprint LT-UDD-24_N (QFN, 24-Leads, Body 5.1x3.1mm, Pitch 0.5mm, Thermal Pad 3.65x1.65mm, IPC Medium Density)
footprint LT-UDD-24_L (QFN, 24-Leads, Body 5.1x3.1mm, Pitch 0.5mm, Thermal Pad 3.65x1.65mm, IPC High Density)
footprint LT-UDD-24_M (QFN, 24-Leads, Body 5.1x3.1mm, Pitch 0.5mm, Thermal Pad 3.65x1.65mm, IPC Low Density)
part A pins: 1 SS (in) "A capacitor is tied between SS and ground to slowly ramp up the peak current limit of the LT3976 on start-up. There is an internal 1.8uA pull-up on this pin. The soft-start capacitor is actively discharged when the EN pin (See Datasheet)", 2 OUT (in) "This pin is an input to the dropout comparator which maintains a minimum dropout of 500mV between VIN and OUT. The OUT pin connects to the anode of the internal boost diode. This pin also supplies the current to the (See Datasheet)", 4 BOOST "This pin is used to provide a drive voltage, higher than the input voltage, to the internal bipolar NPN power switch.", 6 SW (power) "The SW pin is the output of an internal power switch. Connect these pins to the inductor, catch diode, and boost capacitor. An R-C snubber to GND is needed to ensure robustness under all conditions. Typical values are 2ohm (See Datasheet)", 7 SW (power) "The SW pin is the output of an internal power switch. Connect these pins to the inductor, catch diode, and boost capacitor. An R-C snubber to GND is needed to ensure robustness under all conditions. Typical values are 2ohm (See Datasheet)", 8 SW (power) "The SW pin is the output of an internal power switch. Connect these pins to the inductor, catch diode, and boost capacitor. An R-C snubber to GND is needed to ensure robustness under all conditions. Typical values are 2ohm (See Datasheet)", 13 VIN (power) "The VIN pin supplies current to the LT3976’s internal circuitry and to the internal power switch. These pins must be locally bypassed.", 14 VIN (power) "The VIN pin supplies current to the LT3976’s internal circuitry and to the internal power switch. These pins must be locally bypassed.", 15 VIN (power) "The VIN pin supplies current to the LT3976’s internal circuitry and to the internal power switch. These pins must be locally bypassed.", 16 EN (in) "The part is in shutdown when this pin is low and active when this pin is high. The hysteretic threshold voltage is 1.08V going up and 1.02V going down. The EN threshold is only accurate when VIN is above 4.3V. If VIN is (See Datasheet)", 18 RT "A resistor is tied between RT and ground to set the switching frequency.", 19 PG (hiz) "The PG pin is the open-drain output of an internal comparator. PGOOD remains low until the FB pin is within 8.4% of the final regulation voltage. PGOOD is valid when VIN is above 2V.", 20 SYNC (in) "This is the external clock synchronization input. Ground this pin for low ripple Burst Mode operation at low output loads. Tie to a clock source for synchronization, which will include pulse skipping at low output loads. (See Datasheet)", 21 GND (power) "Ground. The exposed pad must be soldered to the PCB.", 23 FB (in) "The LT3976 regulates the FB pin to 1.197V. Connect the feedback resistor divider tap to this pin. Also, connect a phase lead capacitor between FB and the output. Typically, this capacitor is 10pF.", 24 FB (in) "The LT3976 regulates the FB pin to 1.197V. Connect the feedback resistor divider tap to this pin. Also, connect a phase lead capacitor between FB and the output. Typically, this capacitor is 10pF.", 25 EP (power) "Ground. The exposed pad must be soldered to the PCB."
part B pins: 3 NC "No Connects. These pins are not connected to internal circuitry.", 5 NC "No Connects. These pins are not connected to internal circuitry.", 9 NC "No Connects. These pins are not connected to internal circuitry.", 10 NC "No Connects. These pins are not connected to internal circuitry.", 11 NC "No Connects. These pins are not connected to internal circuitry.", 12 NC "No Connects. These pins are not connected to internal circuitry.", 17 NC "No Connects. These pins are not connected to internal circuitry.", 22 NC "No Connects. These pins are not connected to internal circuitry."

## LT3976IUDD#TRPBF
designator U?
5 A, 2 MHz Step-Down Switching Regulator with 3.3 uA Quiescent Current, 24-pin QFN (UDD-24), -40 to 125 degC, Pb-Free, Tape and Reel; Manufacturer: Linear Technology; PartNumber: LT3976IUDD#TRPBF; Number of Outputs: 1; PackageReference: UDD-24; PackageDescription: 24-Pin Plastic QFN, Body 5 x 3 mm, Pitch 0.5 mm; Supplier 1: Digi-Key; Supplier Part Number 1: LT3976IUDD#TRPBF-ND; RoHS: TRUE
footprint LT-UDD-24_N (QFN, 24-Leads, Body 5.1x3.1mm, Pitch 0.5mm, Thermal Pad 3.65x1.65mm, IPC Medium Density)
footprint LT-UDD-24_L (QFN, 24-Leads, Body 5.1x3.1mm, Pitch 0.5mm, Thermal Pad 3.65x1.65mm, IPC High Density)
footprint LT-UDD-24_M (QFN, 24-Leads, Body 5.1x3.1mm, Pitch 0.5mm, Thermal Pad 3.65x1.65mm, IPC Low Density)
part A pins: 1 SS (in) "A capacitor is tied between SS and ground to slowly ramp up the peak current limit of the LT3976 on start-up. There is an internal 1.8uA pull-up on this pin. The soft-start capacitor is actively discharged when the EN pin (See Datasheet)", 2 OUT (in) "This pin is an input to the dropout comparator which maintains a minimum dropout of 500mV between VIN and OUT. The OUT pin connects to the anode of the internal boost diode. This pin also supplies the current to the (See Datasheet)", 4 BOOST "This pin is used to provide a drive voltage, higher than the input voltage, to the internal bipolar NPN power switch.", 6 SW (power) "The SW pin is the output of an internal power switch. Connect these pins to the inductor, catch diode, and boost capacitor. An R-C snubber to GND is needed to ensure robustness under all conditions. Typical values are 2ohm (See Datasheet)", 7 SW (power) "The SW pin is the output of an internal power switch. Connect these pins to the inductor, catch diode, and boost capacitor. An R-C snubber to GND is needed to ensure robustness under all conditions. Typical values are 2ohm (See Datasheet)", 8 SW (power) "The SW pin is the output of an internal power switch. Connect these pins to the inductor, catch diode, and boost capacitor. An R-C snubber to GND is needed to ensure robustness under all conditions. Typical values are 2ohm (See Datasheet)", 13 VIN (power) "The VIN pin supplies current to the LT3976’s internal circuitry and to the internal power switch. These pins must be locally bypassed.", 14 VIN (power) "The VIN pin supplies current to the LT3976’s internal circuitry and to the internal power switch. These pins must be locally bypassed.", 15 VIN (power) "The VIN pin supplies current to the LT3976’s internal circuitry and to the internal power switch. These pins must be locally bypassed.", 16 EN (in) "The part is in shutdown when this pin is low and active when this pin is high. The hysteretic threshold voltage is 1.08V going up and 1.02V going down. The EN threshold is only accurate when VIN is above 4.3V. If VIN is (See Datasheet)", 18 RT "A resistor is tied between RT and ground to set the switching frequency.", 19 PG (hiz) "The PG pin is the open-drain output of an internal comparator. PGOOD remains low until the FB pin is within 8.4% of the final regulation voltage. PGOOD is valid when VIN is above 2V.", 20 SYNC (in) "This is the external clock synchronization input. Ground this pin for low ripple Burst Mode operation at low output loads. Tie to a clock source for synchronization, which will include pulse skipping at low output loads. (See Datasheet)", 21 GND (power) "Ground. The exposed pad must be soldered to the PCB.", 23 FB (in) "The LT3976 regulates the FB pin to 1.197V. Connect the feedback resistor divider tap to this pin. Also, connect a phase lead capacitor between FB and the output. Typically, this capacitor is 10pF.", 24 FB (in) "The LT3976 regulates the FB pin to 1.197V. Connect the feedback resistor divider tap to this pin. Also, connect a phase lead capacitor between FB and the output. Typically, this capacitor is 10pF.", 25 EP (power) "Ground. The exposed pad must be soldered to the PCB."
part B pins: 3 NC "No Connects. These pins are not connected to internal circuitry.", 5 NC "No Connects. These pins are not connected to internal circuitry.", 9 NC "No Connects. These pins are not connected to internal circuitry.", 10 NC "No Connects. These pins are not connected to internal circuitry.", 11 NC "No Connects. These pins are not connected to internal circuitry.", 12 NC "No Connects. These pins are not connected to internal circuitry.", 17 NC "No Connects. These pins are not connected to internal circuitry.", 22 NC "No Connects. These pins are not connected to internal circuitry."